# Altium integrated library lv_controller_lib.IntLib: 20 symbols
Pins are listed as number, name and electrical type; pins without a type are passive.

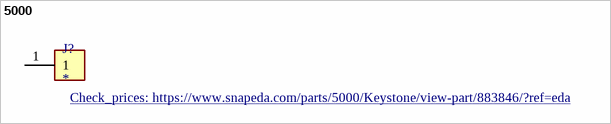
[diagram p0: symbol 5000]

## 5000
designator J?
High Pin Count, Backplane Connectors, Receptacle, Right Angle, Through Hole, 4 Row, 120 Positions, 0 Guide Pin, 2.54mm (0.100in) Pitch; MP: 5000; MF: Keystone; Package: Custom Package Ohmite; Availability: Good; Price: None; Purchase-URL: https://pricing.snapeda.com/search/part/5000/?ref=eda; SnapEDA_Link: https://www.snapeda.com/parts/5000/Keystone/view-part/883846/?ref=snap; Value: *; Check_prices: https://www.snapeda.com/parts/5000/Keystone/view-part/883846/?ref=eda
footprint KEYSTONE_5000
pins: 1


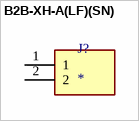
[diagram p1: symbol B2B-XH-A(LF)(SN)]

## B2B-XH-A(LF)(SN)
designator J?
Connector Header Through Hole 2 position 0.098 (2.50mm); MP: B2B-XH-A(LF)(SN); MF: JST Sales; Package: None; SnapEDA_Link: https://www.snapeda.com/parts/B2B-XH-A(LF)(SN)/JST+Sales+America+Inc./view-part/?ref=snap; Purchase-URL: https://pricing.snapeda.com/search/part/B2B-XH-A(LF)(SN)/?ref=eda; Check_prices: https://www.snapeda.com/parts/B2B-XH-A(LF)(SN)/JST+Sales+America+Inc./view-part/?ref=eda; Availability: In Stock; Value: *; Price: None
footprint JST_B2B-XH-A(LF)(SN)
pins: 1, 2


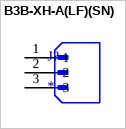
[diagram p2: symbol B3B-XH-A(LF)(SN)]

## B3B-XH-A(LF)(SN)
designator J?
MP: B3B-XH-A(LF)(SN); Value: *; Availability: Unavailable; Package: None; Price: None
footprint JST_B3B-XH-A(LF)(SN)
pins: 1, 2, 3


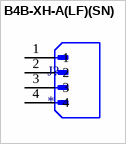
[diagram p3: symbol B4B-XH-A(LF)(SN)]

## B4B-XH-A(LF)(SN)
designator J?
MP: B4B-XH-A(LF)(SN); Price: None; Value: *; Availability: Unavailable; Package: None
footprint JST_B4B-XH-A(LF)(SN)
pins: 1, 2, 3, 4


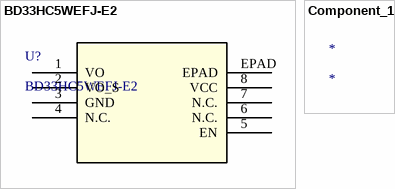
[diagram p4: symbols BD33HC5WEFJ-E2 to Component_1]

## BD33HC5WEFJ-E2
designator U?
No Description Available; Mfr_Name: ROHM Semiconductor; Copyright: Copyright (C) 2022 Ultra Librarian. All rights reserved.; Manufacturer_Part_Number: BD33HC5WEFJ-E2; RefDes: RefDes; Type: DEV
footprint HTSOP-J8_ROM
pins: 1 VO, 2 VO_S, 3 GND, 4 N.C., 5 EN, 6 N.C., 7 N.C., 8 VCC (power), EPAD

## Component_1
designator *


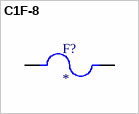
[diagram p5: symbol C1F-8]

## C1F-8
designator F?
C1F 8 (0685F8000-01) | 1206 SMT Fuse | Fast Acting | 8A; MF: Bel Fuse; MP: C1F-8; Availability: Unavailable; Value: *; Price: None; Package: 1206 Bel Fuse; SnapEDA_Link: https://www.snapeda.com/parts/C1F-8/Bel%20Fuse/view-part/4620009/?ref=snap; Check_prices: https://www.snapeda.com/parts/C1F-8/Bel%20Fuse/view-part/4620009/?ref=eda
footprint FUSC3215X83N
pins: 1, 2


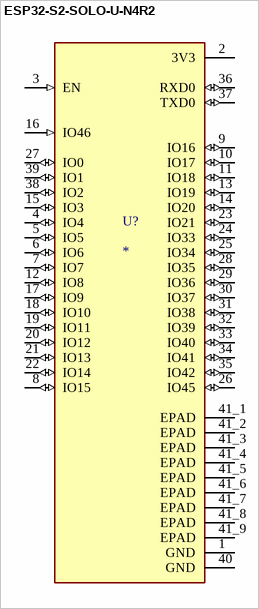
[diagram p6: symbol ESP32-S2-SOLO-U-N4R2]

## ESP32-S2-SOLO-U-N4R2
designator U?
WiFi 802.11b/g/n Transceiver Module 2.4GHz PCB Trace + IPEX Surface Mount; MP: ESP32-S2-SOLO-U-N4R2; MF: Espressif Systems; Package: SMD-40 Espressif Systems; Check_prices: https://www.snapeda.com/parts/ESP32-S2-SOLO-U-N4R2/Espressif+Systems/view-part/?ref=eda; Availability: In Stock; Value: *; Purchase-URL: https://pricing.snapeda.com/search/part/ESP32-S2-SOLO-U-N4R2/?ref=eda; SnapEDA_Link: https://www.snapeda.com/parts/ESP32-S2-SOLO-U-N4R2/Espressif+Systems/view-part/?ref=snap; Price: None
footprint XCVR_ESP32-S2-SOLO-U-N4R2
pins: 1 GND (power), 2 3V3 (power), 3 EN (in), 4 IO4 (io), 5 IO5 (io), 6 IO6 (io), 7 IO7 (io), 8 IO15 (io), 9 IO16 (io), 10 IO17 (io), 11 IO18 (io), 12 IO8 (io), 13 IO19 (io), 14 IO20 (io), 15 IO3 (io), 16 IO46 (in), 17 IO9 (io), 18 IO10 (io), 19 IO11 (io), 20 IO12 (io), 21 IO13 (io), 22 IO14 (io), 23 IO21 (io), 24 IO33 (io), 25 IO34 (io), 26 IO45 (io), 27 IO0 (io), 28 IO35 (io), 29 IO36 (io), 30 IO37 (io), 31 IO38 (io), 32 IO39 (io), 33 IO40 (io), 34 IO41 (io), 35 IO42 (io), 36 RXD0 (io), 37 TXD0 (io), 38 IO2 (io), 39 IO1 (io), 40 GND (power), 41_1 EPAD (power), 41_2 EPAD (power), 41_3 EPAD (power), 41_4 EPAD (power), 41_5 EPAD (power), 41_6 EPAD (power), 41_7 EPAD (power), 41_8 EPAD (power), 41_9 EPAD (power)


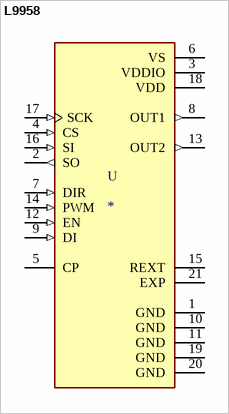
[diagram p7: symbol L9958]

## L9958
designator U
Bipolar Motor Driver CMOS SPI PowerSO-16â„¢; MF: STMicroelectronics; MP: L9958; SnapEDA_Link: https://www.snapeda.com/parts/L9958/STMicroelectronics/view-part/213961/?ref=snap; Availability: Unavailable; Package: SO-20 STMicroelectronics; Price: None; Value: *
footprint SOIC127P1420X360-21N
pins: 1 GND (power), 2 SO (out), 3 VDDIO (power), 4 CS (in), 5 CP, 6 VS (power), 7 DIR (in), 8 OUT1 (out), 9 DI (in), 10 GND (power), 11 GND (power), 12 EN (in), 13 OUT2 (out), 14 PWM (in), 15 REXT, 16 SI (in), 17 SCK (in), 18 VDD (power), 19 GND (power), 20 GND (power), 21 EXP


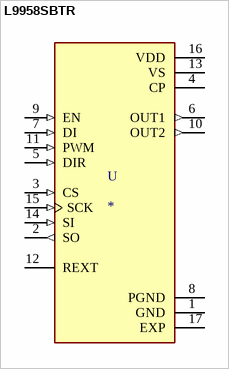
[diagram p8: symbol L9958SBTR]

## L9958SBTR
designator U
Bipolar Motor Driver CMOS SPI PowerSO-16â„¢; MF: STMicroelectronics; MP: L9958SBTR; Package: SO-16 STMicroelectronics; Value: *; Price: None; Availability: Unavailable; SnapEDA_Link: https://www.snapeda.com/parts/L9958SBTR/STMicroelectronics/view-part/588510/?ref=snap
footprint SOP80P1410X360-17N
pins: 1 GND (power), 2 SO (out), 3 CS (in), 4 CP (power), 5 DIR (in), 6 OUT1 (out), 7 DI (in), 8 PGND (power), 9 EN (in), 10 OUT2 (out), 11 PWM (in), 12 REXT, 13 VS (power), 14 SI (in), 15 SCK (in), 16 VDD (power), 17 EXP (power)


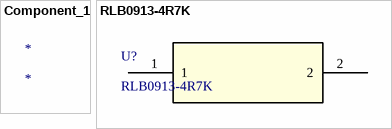
[diagram p9: symbols Component_1 to RLB0913-4R7K]

## Component_1
designator *

## RLB0913-4R7K
designator U?
No Description Available; Mfr_Name: Bourns Electronics; Copyright: Copyright (C) 2022 Ultra Librarian. All rights reserved.; Manufacturer_Part_Number: RLB0913-4R7K; RefDes: RefDes; Type: DEV
footprint RLB0913-4R7K_BRN
pins: 1, 2


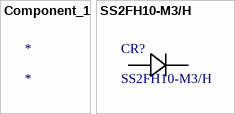
[diagram p10: symbols Component_1 to SS2FH10-M3/H]

## Component_1
designator *

## SS2FH10-M3/H
designator CR?
No Description Available; Mfr_Name: Vishay; Type: DEV; Copyright: Copyright (C) 2022 Ultra Librarian. All rights reserved.; Manufacturer_Part_Number: SS2FH10-M3/H; RefDes: RefDes
footprint CR_10-M3/H_VIS
pins: 1, 2


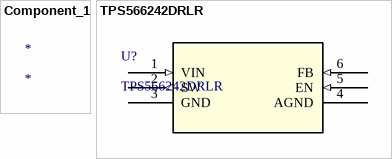
[diagram p11: symbols Component_1 to TPS566242DRLR]

## Component_1
designator *

## TPS566242DRLR
designator U?
No Description Available; Mfr_Name: Texas Instruments; Copyright: Copyright (C) 2022 Ultra Librarian. All rights reserved.; Manufacturer_Part_Number: TPS566242DRLR; RefDes: RefDes; Type: DEV
footprint SOT5x3_DRL_TEX
pins: 1 VIN (in), 2 SW (out), 3 GND, 4 AGND, 5 EN (in), 6 FB (in)


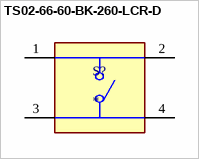
[diagram p12: symbol TS02-66-60-BK-260-LCR-D]

## TS02-66-60-BK-260-LCR-D
designator S?
6 x 6 mm, 6 mm Actuator Height, 260 gf, Black, Long Crimped, Through Hole, SPST, Tactile Switch; MP: TS02-66-60-BK-260-LCR-D; MF: CUI Devices; Check_prices: https://www.snapeda.com/parts/TS02-66-60-BK-260-LCR-D/CUI+Devices/view-part/?ref=eda; Price: None; SnapEDA_Link: https://www.snapeda.com/parts/TS02-66-60-BK-260-LCR-D/CUI+Devices/view-part/?ref=snap; Availability: In Stock; Value: *; CUI_purchase_URL: https://www.cuidevices.com/product/switches/tactile-switches/ts02-series?utm_source=snapeda.com&utm_medium=referral&utm_campaign=snapedaBOM; Purchase-URL: https://pricing.snapeda.com/search/part/TS02-66-60-BK-260-LCR-D/?ref=eda; Package: None
footprint SW_TS02-66-60-BK-260-LCR-D
pins: 1, 2, 3, 4


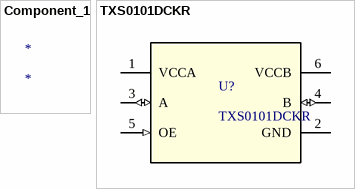
[diagram p13: symbols Component_1 to TXS0101DCKR]

## Component_1
designator *
footprint XCVR_ESP32-S2-SOLO-U-N4R2

## TXS0101DCKR
designator U?
No Description Available; Mfr_Name: Texas Instruments; Type: DEV; RefDes: RefDes; Copyright: Copyright (C) 2022 Ultra Librarian. All rights reserved.; Manufacturer_Part_Number: TXS0101DCKR
footprint DCK0006A_N
pins: 1 VCCA (power), 2 GND (power), 3 A (io), 4 B (io), 5 OE (in), 6 VCCB (power)


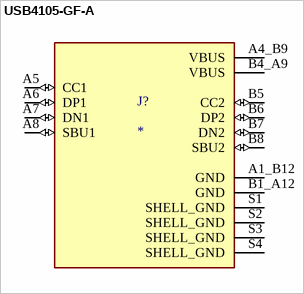
[diagram p14: symbol USB4105-GF-A]

## USB4105-GF-A
designator J?
USB-C (USB TYPE-C) USB 2.0 Receptacle Connector 24 (16+8 Dummy) Position Surface Mount, Right Angle; Through Hole; MP: USB4105-GF-A; MF: GCT; Price: None; Availability: In Stock; Package: None; SnapEDA_Link: https://www.snapeda.com/parts/USB4105-GF-A/Global+Connector+Technology/view-part/?ref=snap; Check_prices: https://www.snapeda.com/parts/USB4105-GF-A/Global+Connector+Technology/view-part/?ref=eda; Value: *; Purchase-URL: https://pricing.snapeda.com/search/part/USB4105-GF-A/?ref=eda
footprint GCT_USB4105-GF-A
pins: A1_B12 GND (power), A4_B9 VBUS (power), A5 CC1 (io), A6 DP1 (io), A7 DN1 (io), A8 SBU1 (io), B1_A12 GND (power), B4_A9 VBUS (power), B5 CC2 (io), B6 DP2 (io), B7 DN2 (io), B8 SBU2 (io), S1 SHELL_GND (power), S2 SHELL_GND (power), S3 SHELL_GND (power), S4 SHELL_GND (power)